# Altium footprint library Components - 28.02.23 - 19.14.PcbLib: 1 footprints
Each footprint in its own frame and in the unit in brackets; x right, y up, seen from the top. Pads: shape width x height; smd on the part's side, far side on the other; paste and mask are expansions set on the pad; w line width, h text height; cw(c..) or ccw(c..) is an arc to the next point about the centre after c.
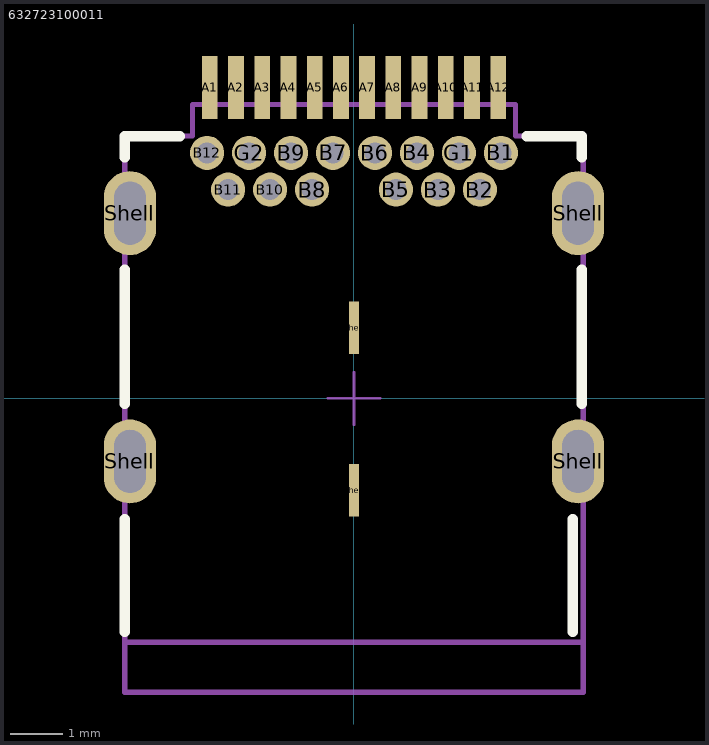
[diagram p0: the footprint, top view; thin cyan lines are the x and y axes]

## 632723100011 [mm] "USB 3.1 Type C Receptacle Horizontal THR"
height 2.96
pads (32):
  rect 0.3x1.2 smd: A1(-2.75,5.93) A2(-2.25,5.93) A3(-1.75,5.93) A4(-1.25,5.93) A5(-0.75,5.93) A6(-0.25,5.93) A7(0.25,5.93) A8(0.75,5.93) A9(1.25,5.93) A10(1.75,5.93) A11(2.25,5.93) A12(2.75,5.93)
  round 0.65 hole 0.4: B1(2.8,4.68) B2(2.4,3.98) B3(1.6,3.98) B4(1.2,4.68) B5(0.8,3.98) B6(0.4,4.68) B7(-0.4,4.68) B8(-0.8,3.98) B9(-1.2,4.68) B10(-1.6,3.98) B11(-2.4,3.98) B12(-2.8,4.68) G1(2,4.68) G2(-2,4.68)
  oval 1x1.6 hole 0.6 slot 1.2 at 90 deg: Shell(-4.27,-1.2) Shell(-4.27,3.53) Shell(4.27,-1.2) Shell(4.27,3.53)
  rect 0.2x1 smd: Shell(0,-1.75) Shell(0,1.35)
Top Overlay:
  lines w0.2: -4.37,-4.45 -4.37,-2.3 ; -4.37,-0.1 -4.37,2.45 ; -4.37,4.6 -4.37,5 -3.32,5 ; 3.29,5 4.34,5 4.34,4.6 ; 4.17,-4.45 4.17,-2.3 ; 4.34,-0.1 4.34,2.45
Mechanical 2:
  lines w0.1: -4.37,-4.65 4.37,-4.65
  text "PCB Edge" at -1.7,-5.6 h0.61
Mechanical 13:
  lines w0.05: -2.85,5.6 -2.85,6.19 -2.65,6.19 -2.65,5.6 ; -2.35,5.6 -2.35,6.19 -2.15,6.19 -2.15,5.6 ; -1.85,5.6 -1.85,6.19 -1.65,6.19 -1.65,5.6 ; -1.35,5.6 -1.35,6.19 -1.15,6.19 -1.15,5.6 ; -0.85,5.6 -0.85,6.19 -0.65,6.19 -0.65,5.6 ; -0.35,5.6 -0.35,6.19 -0.15,6.19 -0.15,5.6 ; 0.15,5.6 0.15,6.19 0.35,6.19 0.35,5.6 ; 0.65,5.6 0.65,6.19 0.85,6.19 0.85,5.6 ; 1.15,5.6 1.15,6.19 1.35,6.19 1.35,5.6 ; 1.65,5.6 1.65,6.19 1.85,6.19 1.85,5.6 ; 2.15,5.6 2.15,6.19 2.35,6.19 2.35,5.6 ; 2.65,5.6 2.65,6.19 2.85,6.19 2.85,5.6
  lines w0.1: 4.34,-5.6 -4.37,-5.6 -4.37,5 -3.08,5 -3.08,5.6 3.08,5.6 3.08,5 4.37,5 4.37,-5.6
Mechanical 15:
  lines w0.05: -0.5,0 0.5,0 ; 0,-0.5 0,0.5
3D body "632723100011.stp": height 3.05, standoff -1.81, extent -4.37,-5.6 4.37,6.194